# Altium schematic symbol library GSM.SchLib: 3 symbols
Pins are listed as number, name and electrical type; pins without a type are passive.

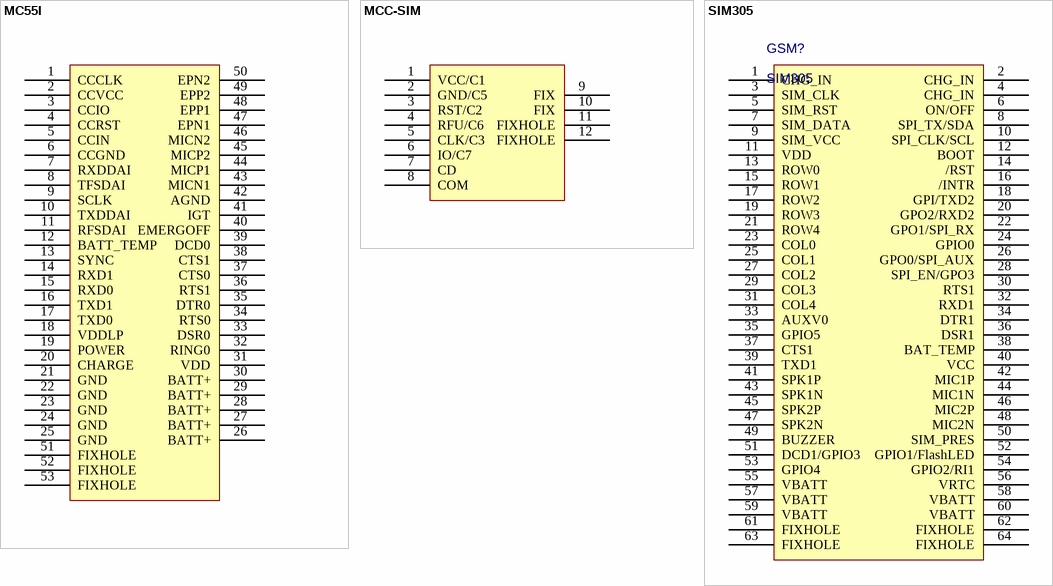
[diagram p0: symbols MC55I to SIM305]

## MC55I
designator U?, comment PBTD10S
GSM module; Value: PBTD10S
pins: 1 CCCLK, 2 CCVCC, 3 CCIO, 4 CCRST, 5 CCIN, 6 CCGND, 7 RXDDAI, 8 TFSDAI, 9 SCLK, 10 TXDDAI, 11 RFSDAI, 12 BATT_TEMP, 13 SYNC, 14 RXD1, 15 RXD0, 16 TXD1, 17 TXD0, 18 VDDLP, 19 POWER, 20 CHARGE, 21 GND, 22 GND, 23 GND, 24 GND, 25 GND, 26 BATT+, 27 BATT+, 28 BATT+, 29 BATT+, 30 BATT+, 31 VDD, 32 RING0, 33 DSR0, 34 RTS0, 35 DTR0, 36 RTS1, 37 CTS0, 38 CTS1, 39 DCD0, 40 EMERGOFF, 41 IGT, 42 AGND, 43 MICN1, 44 MICP1, 45 MICP2, 46 MICN2, 47 EPN1, 48 EPP1, 49 EPP2, 50 EPN2, 51 FIXHOLE, 52 FIXHOLE, 53 FIXHOLE

## MCC-SIM
designator SIM?
Connector; Value: MCC-SIM
pins: 1 VCC/C1, 2 GND/C5, 3 RST/C2, 4 RFU/C6, 5 CLK/C3, 6 IO/C7, 7 CD, 8 COM, 9 FIX, 10 FIX, 11 FIXHOLE, 12 FIXHOLE

## SIM305
designator GSM?
Value: SIM305
pins: 1 CHG_IN, 2 CHG_IN, 3 SIM_CLK, 4 CHG_IN, 5 SIM_RST, 6 ON/OFF, 7 SIM_DATA, 8 SPI_TX/SDA, 9 SIM_VCC, 10 SPI_CLK/SCL, 11 VDD, 12 BOOT, 13 ROW0, 14 /RST, 15 ROW1, 16 /INTR, 17 ROW2, 18 GPI/TXD2, 19 ROW3, 20 GPO2/RXD2, 21 ROW4, 22 GPO1/SPI_RX, 23 COL0, 24 GPIO0, 25 COL1, 26 GPO0/SPI_AUX, 27 COL2, 28 SPI_EN/GPO3, 29 COL3, 30 RTS1, 31 COL4, 32 RXD1, 33 AUXV0, 34 DTR1, 35 GPIO5, 36 DSR1, 37 CTS1, 38 BAT_TEMP, 39 TXD1, 40 VCC, 41 SPK1P, 42 MIC1P, 43 SPK1N, 44 MIC1N, 45 SPK2P, 46 MIC2P, 47 SPK2N, 48 MIC2N, 49 BUZZER, 50 SIM_PRES, 51 DCD1/GPIO3, 52 GPIO1/FlashLED, 53 GPIO4, 54 GPIO2/RI1, 55 VBATT, 56 VRTC, 57 VBATT, 58 VBATT, 59 VBATT, 60 VBATT, 61 FIXHOLE, 62 FIXHOLE, 63 FIXHOLE, 64 FIXHOLE